# Altium footprint library blink_routed.PcbLib: 3 footprints
Each footprint in its own frame and in the unit in brackets; x right, y up, seen from the top. Pads: shape width x height; smd on the part's side, far side on the other; paste and mask are expansions set on the pad; w line width, h text height; cw(c..) or ccw(c..) is an arc to the next point about the centre after c.
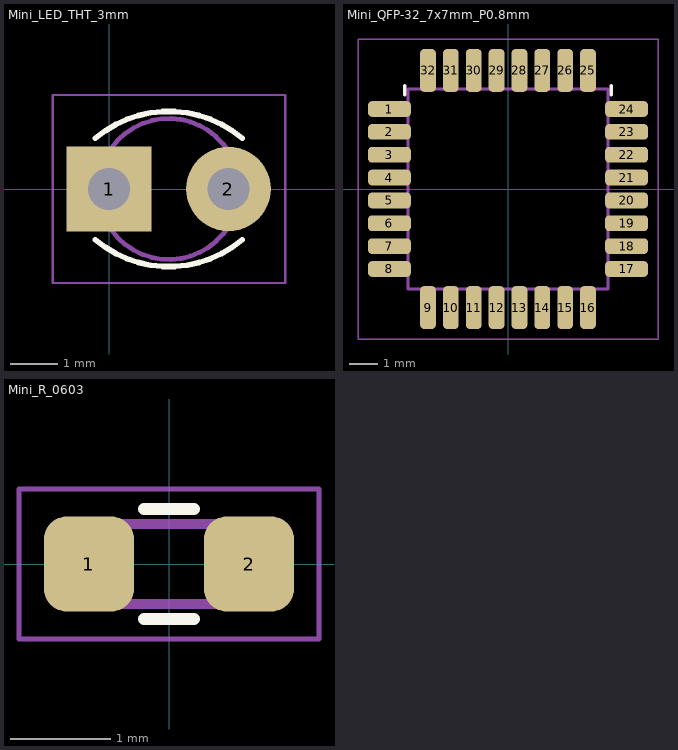
[diagram p0: the footprints below, top view; thin cyan lines are the x and y axes]

## Mini_LED_THT_3mm [mm] "Mini 3 mm through-hole LED. Synthetic geometry for Fenolite tests, not a validated land pattern"
pads (2):
  rect 1.8x1.8 hole 0.9: 1(0,0)
  round 1.8 hole 0.9: 2(2.54,0)
Top Overlay:
  lines w0.12: -0.29,-1.08 ccw(c1.27,0.77) 2.83,-1.08 ; -0.29,1.08 cw(c1.27,-0.77) 2.83,1.08
Mechanical 13:
  circle w0.1: c1.27,0 r1.5
Mechanical 15:
  lines w0.05: -1.2,-2 3.75,-2 3.75,2 -1.2,2 -1.2,-2

## Mini_QFP-32_7x7mm_P0.8mm [mm] "Mini QFP, 32 pins, 7 x 7 mm body, 0.8 mm pitch. Synthetic geometry for Fenolite tests, not a validated land pattern"
pads (32):
  rrect50% 1.5x0.55 smd: 1(-4.15,2.8) 2(-4.15,2) 3(-4.15,1.2) 4(-4.15,0.4) 5(-4.15,-0.4) 6(-4.15,-1.2) 7(-4.15,-2) 8(-4.15,-2.8) 17(4.15,-2.8) 18(4.15,-2) 19(4.15,-1.2) 20(4.15,-0.4) 21(4.15,0.4) 22(4.15,1.2) 23(4.15,2) 24(4.15,2.8)
  rrect50% 0.55x1.5 smd: 9(-2.8,-4.15) 10(-2,-4.15) 11(-1.2,-4.15) 12(-0.4,-4.15) 13(0.4,-4.15) 14(1.2,-4.15) 15(2,-4.15) 16(2.8,-4.15) 25(2.8,4.15) 26(2,4.15) 27(1.2,4.15) 28(0.4,4.15) 29(-0.4,4.15) 30(-1.2,4.15) 31(-2,4.15) 32(-2.8,4.15)
Top Overlay:
  lines w0.12: -3.61,3.3 -3.61,3.61 ; 3.61,3.3 3.61,3.61
Mechanical 13:
  lines w0.1: -3.5,-3.5 3.5,-3.5 3.5,3.5 -3.5,3.5 -3.5,-3.5
Mechanical 15:
  lines w0.05: -5.25,-5.25 -5.25,5.25 5.25,5.25 5.25,-5.25 -5.25,-5.25

## Mini_R_0603 [mm] "Mini 0603 resistor. Synthetic geometry for Fenolite tests, not a validated land pattern"
pads (2):
  rrect50% 0.9x0.95 smd: 1(-0.8,0) 2(0.8,0)
Top Overlay:
  lines w0.12: -0.25,-0.55 0.25,-0.55 ; -0.25,0.55 0.25,0.55
Mechanical 13:
  lines w0.1: -0.8,-0.4 0.8,-0.4 0.8,0.4 -0.8,0.4 -0.8,-0.4
Mechanical 15:
  lines w0.05: -1.5,-0.75 1.5,-0.75 1.5,0.75 -1.5,0.75 -1.5,-0.75